# Altium schematic symbol library MC14043BDR2G.SchLib: 2 symbols
Pins are listed as number, name and electrical type; pins without a type are passive.

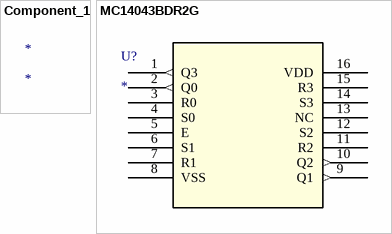
[diagram p0: symbols Component_1 to MC14043BDR2G]

## Component_1
designator *

## MC14043BDR2G
designator U?
No Description Available; Mfr_Name: onsemi; RefDes: RefDes; Type: Type
footprint SOIC-16_ONS
pins: 1 Q3 (out), 2 Q0 (out), 3 R0, 4 S0, 5 E, 6 S1, 7 R1, 8 VSS (power), 9 Q1 (out), 10 Q2 (out), 11 R2, 12 S2, 13 NC, 14 S3, 15 R3, 16 VDD (power)